# Altium footprint library Connectors.PcbLib: 76 footprints (part 4 of 5)
Each footprint in its own frame and in the unit in brackets; x right, y up, seen from the top. Pads: shape width x height; smd on the part's side, far side on the other; paste and mask are expansions set on the pad; w line width, h text height; cw(c..) or ccw(c..) is an arc to the next point about the centre after c.
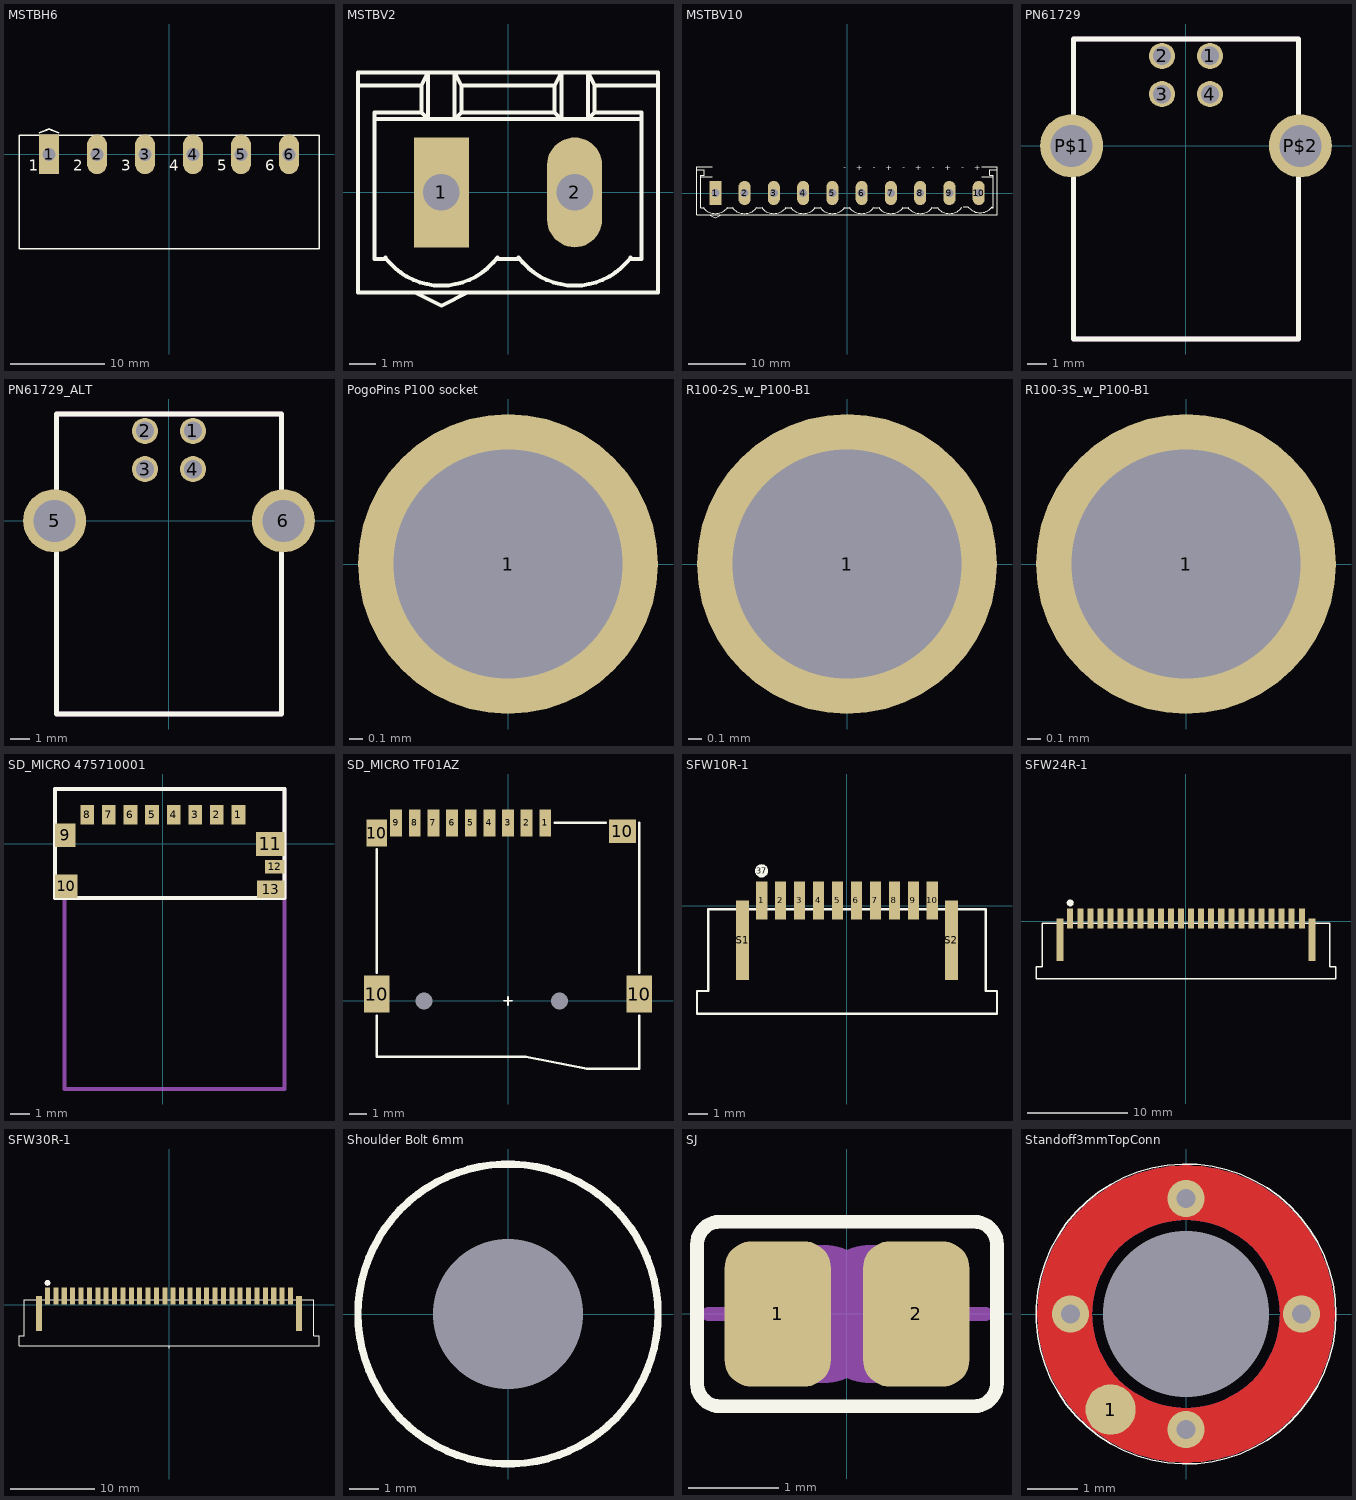
[diagram p3: the footprints below, top view; thin cyan lines are the x and y axes]

## MSTBH6 [mil] "Pluggable terminal block-5.08mm pitch - Horizontal"
pads (6):
  rect 82.5x165 hole 55: 1(-500,0)
  oval 82.5x165 hole 55: 2(-300,0) 3(-100,0) 4(100,0) 5(300,0) 6(500,0)
Top Overlay:
  lines w6: -625,-393.7 625,-393.7 625,78.74 -625,78.74 -625,-393.7
  lines w8: -540,90 -500,105 -460,90
  text "5" at 200,-85 h77.5
  text "6" at 400,-85 h77.5
  text "4" at 0,-85 h77.5
  text "3" at -200,-85 h77.5
  text "2" at -400,-85 h77.5
  text "1" at -585,-85 h77.5
Mechanical 8:
  lines w6: -525,-25 -475,25 ; -525,-25 -475,-25 ; -525,-25 -525,25 ; -525,25 -475,-25 ; -525,25 -475,25 ; -475,-25 -475,25 ; -325,-25 -275,25 ; -325,-25 -325,25 ; -325,-25 -275,-25 ; -325,25 -275,-25 ; -325,25 -275,25 ; -275,-25 -275,25 ; -125,-25 -75,25 ; -125,-25 -75,-25 ; -125,-25 -125,25 ; -125,25 -75,-25 ; -125,25 -75,25 ; -75,-25 -75,25 ; 75,-25 125,-25 ; 75,-25 125,25 ; 75,-25 75,25 ; 75,25 125,-25 ; 75,25 125,25 ; 125,-25 125,25 ; 125,-25 125,25 ; 275,-25 275,25 ; 275,-25 325,-25 ; 275,-25 325,25 ; 275,25 325,25 ; 275,25 325,-25 ; 325,-25 325,25
3D body: height 326.77, standoff 0, extent -628,-396.7 628,81.74

## MSTBV2 [mil]
pads (2):
  rect 82.5x165 hole 55: 1(-100,0)
  oval 82.5x165 hole 55: 2(100,0)
Top Overlay:
  lines w6: -184,-98 ccw(c-100,-35) -100,-140 ccw(c-100,-35) -16,-98 ; -183,-100 -200,-100 -200,110 ; -140,-150 -100,-170 -60,-150 ; -15,-100 15,-100 ; 16,-98 ccw(c100,-35) 100,-140 ccw(c100,-35) 184,-98 ; 183,-100 200,-100 ; 185,-100 200,-100 ; -225,160 -225,180 -120,180 ; -225,160 -225,-150 225,-150 225,160 ; -225,160 -130,160 ; -200,110 -200,120 -130,120 ; -200,110 -120,110 ; -130,120 -130,160 ; -130,120 -120,110 ; -130,160 -120,180 ; -120,110 -80,110 ; -120,110 -120,180 ; -120,180 -80,180 ; -80,110 80,110 ; -80,110 -80,180 ; -80,110 -70,120 ; -80,180 80,180 ; -80,180 -70,160 ; -70,120 70,120 ; -70,120 -70,160 ; -70,160 70,160 ; 70,120 70,160 ; 70,120 80,110 ; 70,160 80,180 ; 80,110 120,110 ; 80,110 80,180 ; 80,180 120,180 ; 120,110 120,180 ; 120,110 130,120 ; 120,110 130,120 ; 120,110 200,110 ; 120,180 130,160 ; 120,180 130,160 ; 120,180 225,180 225,160 ; 130,120 130,160 ; 130,120 200,120 200,110 ; 130,160 225,160 ; 200,-100 200,110
Mechanical 8:
  lines w6: -125,-25 -125,25 ; -125,-25 -75,-25 ; -125,-25 -75,25 ; -125,25 -75,25 ; -125,25 -75,-25 ; -75,-25 -75,25 ; 75,-25 125,-25 ; 75,-25 75,25 ; 75,-25 125,25 ; 75,25 125,25 ; 75,25 125,-25 ; 125,-25 125,25
3D body: height 393.7, standoff 0, extent -228,-153 228,183

## MSTBV10 [mil]
pads (10):
  rect 82.5x165 hole 55: 1(-900,0)
  oval 82.5x165 hole 55: 2(-700,0) 3(-500,0) 4(-300,0) 5(-100,0) 6(100,0) 7(300,0) 8(500,0) 9(700,0) 10(900,0)
Top Overlay:
  lines w5.98: 920,180 1025,180
  lines w6: -984,-98 ccw(c-900,-35) -900,-140 ccw(c-900,-35) -816,-98 ; -983,-100 -1000,-100 -1000,110 ; -940,-150 -900,-170 -860,-150 ; -920,110 -1000,110 ; -920,180 -1025,180 -1025,160 ; -815,-100 -785,-100 ; -784,-98 ccw(c-700,-35) -700,-140 ccw(c-700,-35) -616,-98 ; -615,-100 -585,-100 ; -584,-98 ccw(c-500,-35) -500,-140 ccw(c-500,-35) -416,-98 ; -415,-100 -385,-100 ; -384,-98 ccw(c-300,-35) -300,-140 ccw(c-300,-35) -216,-98 ; -217,-100 -200,-100 ; -215,-100 -185,-100 ; -184,-98 ccw(c-100,-35) -100,-140 ccw(c-100,-35) -16,-98 ; -15,-100 15,-100 ; 16,-98 ccw(c100,-35) 100,-140 ccw(c100,-35) 184,-98 ; 185,-100 215,-100 ; 216,-98 ccw(c300,-35) 300,-140 ccw(c300,-35) 384,-98 ; 385,-100 415,-100 ; 416,-98 ccw(c500,-35) 500,-140 ccw(c500,-35) 584,-98 ; 585,-100 615,-100 ; 616,-98 ccw(c700,-35) 700,-140 ccw(c700,-35) 784,-98 ; 795,-95 825,-95 ; 826,-93 ccw(c910,-30) 910,-135 ccw(c910,-30) 994,-93 ; 920,110 1000,110 ; 990,-100 1000,-100 1000,110 ; 1025,180 1025,160 ; -1025,160 -976.38,160 -976.38,120 -1000,120 -1000,110 ; -1025,160 -1025,-150 -175,-150 -70,-150 1025,-150 1025,160 ; 1000,110 1000,120 976.38,120 976.38,160 1025,160
  text "+    -    +    -    +    -    +    -    +    -" at 915,185 h40
Mechanical 8:
  lines w6: -925,-25 -875,25 ; -925,-25 -875,-25 ; -925,-25 -925,25 ; -925,25 -875,-25 ; -925,25 -875,25 ; -875,-25 -875,25 ; -725,-25 -675,25 ; -725,-25 -725,25 ; -725,-25 -675,-25 ; -725,25 -675,-25 ; -725,25 -675,25 ; -675,-25 -675,25 ; -525,-25 -475,25 ; -525,-25 -475,-25 ; -525,-25 -525,25 ; -525,25 -475,-25 ; -525,25 -475,25 ; -475,-25 -475,25 ; -325,-25 -275,-25 ; -325,-25 -275,25 ; -325,-25 -325,25 ; -325,25 -275,-25 ; -325,25 -275,25 ; -275,-25 -275,25
3D body: height 472.44, standoff 0, extent -1028,-153 1025,183

## PN61729 [mil]
pads (6):
  round 54 hole 38: 1(50,186) 2(-49.21,186) 3(-49.21,107) 4(50,107)
  round 130.5 hole 87: P$1(-236.22,0) P$2(237,0)
Top Overlay:
  lines w10: -232.28,-399.61 233,-399.61 233,221 -232.28,221 -232.28,-399.61
Mechanical 8:
  lines w10: -232.28,-399.61 -232.28,221 233,221 233,-399.61 -232.28,-399.61
3D body: height 405.51, standoff 27.56, extent -237.28,-404.61 238,226

## PN61729_ALT [mil]
pads (6):
  round 54 hole 38: 1(50,186) 2(-49.21,186) 3(-49.21,107) 4(50,107)
  round 130.5 hole 87: 5(-236.22,0) 6(237,0)
Top Overlay:
  lines w10: -232.28,-399.61 233,-399.61 233,221 -232.28,221 -232.28,-399.61
Mechanical 8:
  lines w10: -232.28,-399.61 -232.28,221 233,221 233,-399.61 -232.28,-399.61
3D body: height 405.51, standoff 27.56, extent -237.28,-404.61 238,226

## PogoPins P100 socket [mil] "PogoPins P100 socket Bottom/Solder"
pads (1):
  round 87 hole 66.54: 1(0,0)
Top Overlay:
  circle w10: c0,0 r29.55
3D body: height 78.74, standoff -39.37, extent -29.53,-29.53 29.53,29.53

## R100-2S_w_P100-B1 [mil] "PogoPins P100 socket 5mm"
pads (1):
  round 87 hole 66.54: 1(0,0)
3D body "R100-2S_w_P100-B1.STEP": height 427.17, standoff -1082.68, extent -36.02,-36.02 36.02,36.02

## R100-3S_w_P100-B1 [mil] "PogoPins P100 socket 5mm"
pads (1):
  round 87 hole 66.54: 1(0,0)
3D body "R100-3S_w_P100-B1.STEP": height 525.59, standoff -984.25, extent -36.02,-36.01 36.03,36.03

## SD_MICRO 475710001 [mm] "CONN MICRO SD CARD PUSH-PULL R/A Half length"
height 2.3
pads (13):
  rect 0.7x1 smd: 1(3.85,1.465) 2(2.75,1.465) 3(1.65,1.465) 4(0.55,1.465) 5(-0.55,1.465) 6(-1.65,1.465) 7(-2.75,1.465) 8(-3.85,1.465)
  rect 1.05x1.2 smd: 9(-4.975,0.415)
  rect 1.15x1.2 smd: 10(-4.925,-2.175)
  rect 1.45x1.2 smd: 11(5.475,-0.025)
  rect 1x0.694 smd: 12(5.7,-1.175)
  rect 1.4x0.9 smd: 13(5.5,-2.325)
Top Overlay:
  lines w0.203: -5.5,-2.775 -5.5,2.775 6.2,2.775 6.2,-2.775 -5.5,-2.775
Mechanical 15:
  lines w0.203: -5,-2.775 -5,-12.5 6.2,-12.5 6.2,2.775 ; 6.2,2.775 -5.5,2.775 -5.5,-2.775 6.2,-2.775 6.2,2.775
3D body "475710001.stp": height 2.36, standoff 0.07, extent -5.38,-2.55 6.02,2.9

## SD_MICRO TF01AZ [mm]
pads (15):
  rect 0.7x1.6 smd mask+0.051: 1(2.2,10.5) 2(1.1,10.5) 3(0,10.5) 4(-1.1,10.5) 5(-2.2,10.5) 6(-3.3,10.5) 7(-4.4,10.5) 8(-5.5,10.5) 9(-6.6,10.5)
  rect 1.5x2.2 smd mask+0.051: 10(-7.75,0.4) 10(7.75,0.4)
  rect 1.2x1.6 smd mask+0.051: 10(-7.75,9.9)
  rect 1.6x1.4 smd mask+0.051: 10(6.75,10)
  round 0 hole 1 unplated mask+0.051: ""(-4.95,0) ""(3.05,0)
Top Overlay:
  lines w0.102: -0.25,0 0.25,0 ; 0,-0.25 0,0.25
  lines w0.152: -7.75,-0.875 -7.75,-3.3 1.05,-3.3 4.65,-4 7.75,-4 7.75,-0.875 ; -7.75,1.675 -7.75,8.95 ; 2.75,10.5 5.775,10.5 ; 7.75,1.675 7.75,10.5

## SFW10R-1 [mm]
pads (13):
  rect 0.6x2 smd mask+0: 1(-4.5,0.275) 2(-3.5,0.275) 3(-2.5,0.275) 4(-1.5,0.275) 5(-0.5,0.275) 6(0.5,0.275) 7(1.5,0.275) 8(2.5,0.275) 9(3.5,0.275) 10(4.5,0.275)
  round 0.7 on Top Overlay mask+0: 37(-4.5,1.825)
  rect 0.7x4.2 smd mask+0: S1(-5.5,-1.825) S2(5.5,-1.825)
Top Overlay:
  lines w0.127: -7.9,-5.7 7.9,-5.7 7.9,-4.5 7.3,-4.5 7.3,-0.2 -7.3,-0.2 -7.3,-4.5 -7.9,-4.5 -7.9,-5.7
3D body "ssfw10r_1_3st_lf.stp": height 2.7, standoff 0, extent -7.9,-5.7 7.9,0.8

## SFW24R-1 [mm]
pads (27):
  rect 0.6x2 smd mask+0: 1(-11.5,0.275) 2(-10.5,0.275) 3(-9.5,0.275) 4(-8.5,0.275) 5(-7.5,0.275) 6(-6.5,0.275) 7(-5.5,0.275) 8(-4.5,0.275) 9(-3.5,0.275) 10(-2.5,0.275) 11(-1.5,0.275) 12(-0.5,0.275) 13(0.5,0.275) 14(1.5,0.275) 15(2.5,0.275) 16(3.5,0.275) 17(4.5,0.275) 18(5.5,0.275) 19(6.5,0.275) 20(7.5,0.275) 21(8.5,0.275) 22(9.5,0.275) 23(10.5,0.275) 24(11.5,0.275)
  round 0.7 on Top Overlay mask+0: 37(-11.5,1.825)
  rect 0.7x4.2 smd mask+0: S1(-12.5,-1.825) S2(12.5,-1.825)
Top Overlay:
  lines w0.127: -14.9,-5.7 3,-5.7 14.9,-5.7 14.9,-4.5 14.3,-4.5 14.3,-0.2 -14.3,-0.2 -14.3,-4.5 -14.9,-4.5 -14.9,-5.7
3D body "ssfw24r_1_3st_lf.stp": height 2.7, standoff 0, extent -14.9,-5.611 14.9,0.889

## SFW30R-1 [mm]
pads (33):
  rect 0.6x2 smd mask+0: 1(-14.5,1.05) 2(-13.5,1.05) 3(-12.5,1.05) 4(-11.5,1.05) 5(-10.5,1.05) 6(-9.5,1.05) 7(-8.5,1.05) 8(-7.5,1.05) 9(-6.5,1.05) 10(-5.5,1.05) 11(-4.5,1.05) 12(-3.5,1.05) 13(-2.5,1.05) 14(-1.5,1.05) 15(-0.5,1.05) 16(0.5,1.05) 17(1.5,1.05) 18(2.5,1.05) 19(3.5,1.05) 20(4.5,1.05) 21(5.5,1.05) 22(6.5,1.05) 23(7.5,1.05) 24(8.5,1.05) 25(9.5,1.05) 26(10.5,1.05) 27(11.5,1.05) 28(12.5,1.05) 29(13.5,1.05) 30(14.5,1.05)
  round 0.7 on Top Overlay mask+0: 37(-14.5,2.6)
  rect 0.7x4.2 smd mask+0: S1(-15.5,-1.05) S2(15.5,-1.05)
Top Overlay:
  lines w0.127: 0,-5.175 0,-4.925 ; 0,-4.925 -17.9,-4.925 -17.9,-3.725 -17.3,-3.725 -17.3,0.575 17.3,0.575 17.3,-3.725 17.9,-3.725 17.9,-4.925 0,-4.925
3D body "ssfw30r_1_3st_lf.stp": height 2.7, standoff 0, extent -17.9,-4.925 17.9,1.575

## Shoulder Bolt 6mm [mm] "5.1mm hole"
pads (1):
  round 0 hole 5.1 unplated paste+0 mask+2.7: ""(0,0)
Top Overlay:
  circle w0.254: c0,0 r5.099

## SJ [mil]
pads (2):
  rrect50% 46x63 smd paste-32: 1(-30,0) 2(30,0)
Top Overlay:
  lines w6: -65,-30 ccw(c-55,-30) -55,-40 55,-40 ccw(c55,-30) 65,-30 65,30 ccw(c55,30) 55,40 -55,40 ccw(c-55,30) -65,30 -65,-30
Top Solder:
  rectangle: -18.7,-34.45 16.73,36
Mechanical 8:
  lines w6: -60,0 -40,0 ; 40,0 60,0
  lines w50: -10,-5 cw(c-10,0) -10,5 ; 10,-5 ccw(c10,0) 10,5
3D body: height 3.94, standoff 0, extent 6.89,-31.5 53.15,30.51
3D body: height 3.94, standoff 0, extent -53.15,-30.51 -6.89,31.5

## Standoff3mmTopConn [mm]
pads (2):
  round 1 smd paste-2 mask-2: 1(-1.5,-1.9)
  round 0 hole 3.3 unplated paste-2 mask-3: ""(0,0)
via -2.3,0 diameter 0.737 hole 0.381
via 2.3,0 diameter 0.737 hole 0.381
via 0,2.3 diameter 0.737 hole 0.381
via 0,-2.3 diameter 0.737 hole 0.381
Top Layer:
  circle w1.092: c0,0 r2.413
Bottom Layer:
  circle w1.092: c0,0 r2.413
Top Overlay:
  circle w0.025: c0,0 r2.983
Top Solder:
  circle w3.1: c0,0 r1.55
3D body: height 0.01, standoff 0, extent -2.983,-2.983 2.983,2.983